# Altium footprint library 10_RES_THD_AX14_8mm.PcbLib: 9 footprints
Each footprint in its own frame and in the unit in brackets; x right, y up, seen from the top. Pads: shape width x height; smd on the part's side, far side on the other; paste and mask are expansions set on the pad; w line width, h text height; cw(c..) or ccw(c..) is an arc to the next point about the centre after c.
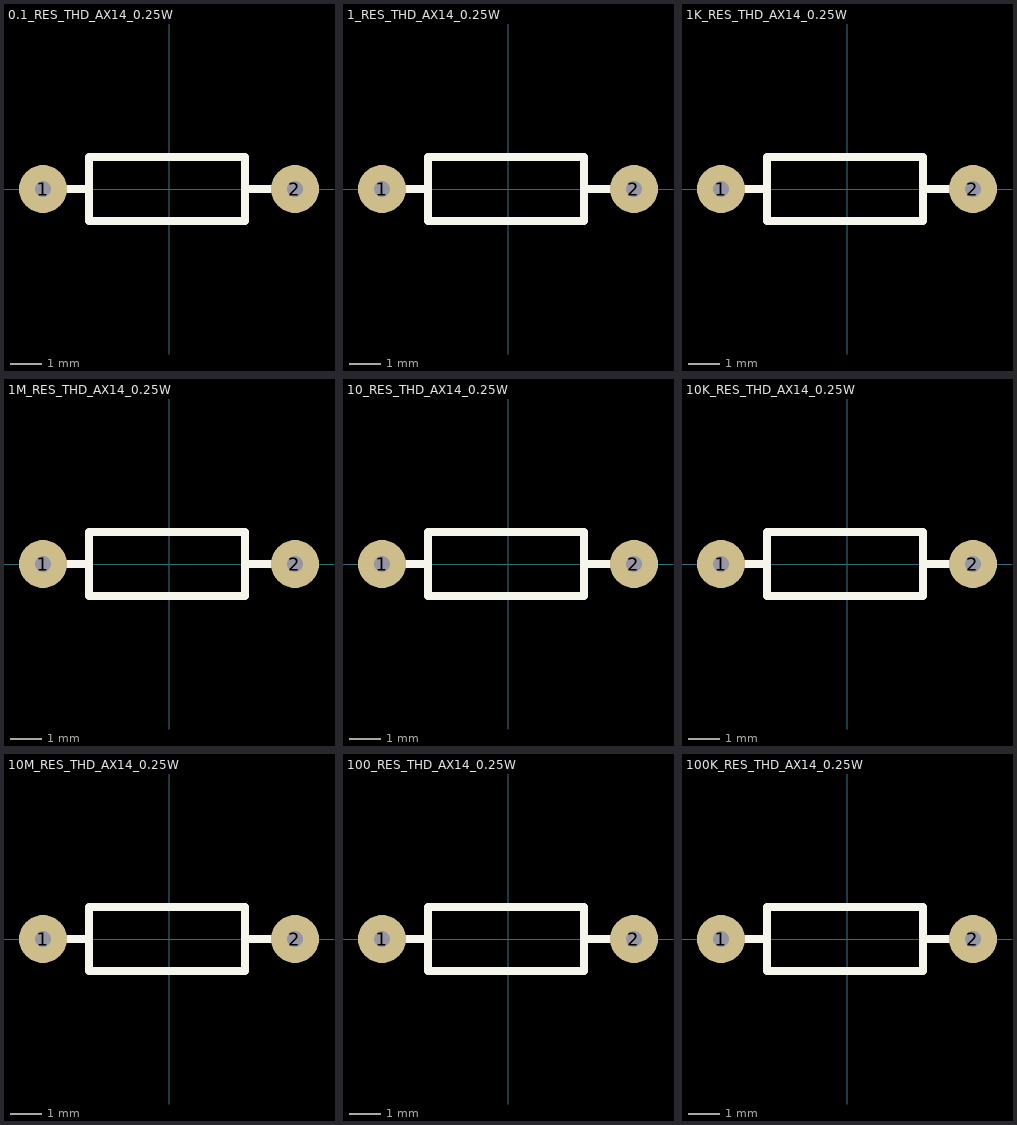
[diagram p0: the footprints below, top view; thin cyan lines are the x and y axes]

## 0.1_RES_THD_AX14_0.25W [mil] "0.1_RES_THD_AX14_0.25W- 8 mm"
pads (2):
  round 60 hole 19.68: 1(-157.48,0) 2(157.48,0)
Top Overlay:
  lines w10: -157.48,0 -100,0 ; 95,0 157.48,0 ; -100,-40 -100,40 95,40 95,-40 -100,-40
3D body "RES_THD_ASR_ASRM_0.1.STEP": height 96.5, standoff -96.46, extent -167.32,-45.33 167.32,45.33

## 1_RES_THD_AX14_0.25W [mil] "1_RES_THD_AX14_0.25W - 8 mm"
pads (2):
  round 60 hole 19.68: 1(-157.48,0) 2(157.48,0)
Top Overlay:
  lines w10: -157.48,0 -100,0 ; 95,0 157.48,0 ; -100,-40 -100,40 95,40 95,-40 -100,-40
3D body "RES_THD_ASR_ASRM_1.STEP": height 96.5, standoff -96.46, extent -167.32,-45.33 167.32,45.33

## 1K_RES_THD_AX14_0.25W [mil] "1K_RES_THD_AX14_0.25W - 8 mm"
pads (2):
  round 60 hole 19.68: 1(-157.48,0) 2(157.48,0)
Top Overlay:
  lines w10: -157.48,0 -100,0 ; 95,0 157.48,0 ; -100,-40 95,-40 95,40 -100,40 -100,-40
3D body "RES_THD_ASR_ASRM_1K.STEP": height 96.5, standoff -96.46, extent -167.32,-45.33 167.32,45.33

## 1M_RES_THD_AX14_0.25W [mil] "1M_RES_THD_AX14_0.25W - 8 mm"
pads (2):
  round 60 hole 19.68: 1(-157.48,0) 2(157.48,0)
Top Overlay:
  lines w10: -157.48,0 -100,0 ; 95,0 157.48,0 ; -100,-40 95,-40 95,40 -100,40 -100,-40
3D body "RES_THD_ASR_ASRM_1M.STEP": height 96.5, standoff -96.46, extent -167.32,-45.33 167.32,45.33

## 10_RES_THD_AX14_0.25W [mil] "10_RES_THD_AX14_0.25W - 8 mm"
pads (2):
  round 60 hole 19.68: 1(-157.48,0) 2(157.48,0)
Top Overlay:
  lines w10: -157.48,0 -100,0 ; 95,0 157.48,0 ; -100,-40 -100,40 95,40 95,-40 -100,-40
3D body "RES_THD_ASR_ASRM_10.STEP": height 96.5, standoff -96.46, extent -167.32,-45.33 167.32,45.33

## 10K_RES_THD_AX14_0.25W [mil] "10K_RES_THD_AX14_0.25W - 8 mm"
pads (2):
  round 60 hole 19.68: 1(-157.48,0) 2(157.48,0)
Top Overlay:
  lines w10: -157.48,0 -100,0 ; 95,0 157.48,0 ; -100,-40 95,-40 95,40 -100,40 -100,-40
3D body "RES_THD_ASR_ASRM_10K.STEP": height 96.5, standoff -96.46, extent -167.32,-45.33 167.32,45.33

## 10M_RES_THD_AX14_0.25W [mil] "10M_RES_THD_AX14_0.25W - 8 mm"
pads (2):
  round 60 hole 19.68: 1(-157.48,0) 2(157.48,0)
Top Overlay:
  lines w10: -157.48,0 -100,0 ; 95,0 157.48,0 ; -100,-40 -100,40 95,40 95,-40 -100,-40
3D body "RES_THD_ASR_ASRM_10M.STEP": height 96.5, standoff -96.46, extent -167.32,-45.33 167.32,45.33

## 100_RES_THD_AX14_0.25W [mil] "100_RES_THD_AX14_0.25W - 8 mm"
pads (2):
  round 60 hole 19.68: 1(-157.48,0) 2(157.48,0)
Top Overlay:
  lines w10: -157.48,0 -100,0 ; 95,0 157.48,0 ; -100,-40 95,-40 95,40 -100,40 -100,-40
3D body "RES_THD_ASR_ASRM_100.STEP": height 96.5, standoff -96.46, extent -167.32,-45.33 167.32,45.33

## 100K_RES_THD_AX14_0.25W [mil] "100K_RES_THD_AX14_0.25W - 8 mm"
pads (2):
  round 60 hole 19.68: 1(-157.48,0) 2(157.48,0)
Top Overlay:
  lines w10: -157.48,0 -100,0 ; 95,0 157.48,0 ; -100,-40 -100,40 95,40 95,-40 -100,-40
3D body "RES_THD_ASR_ASRM_100K.STEP": height 96.5, standoff -96.46, extent -167.32,-45.33 167.32,45.33